# EAGLE library part IR2106 (library l63xx)
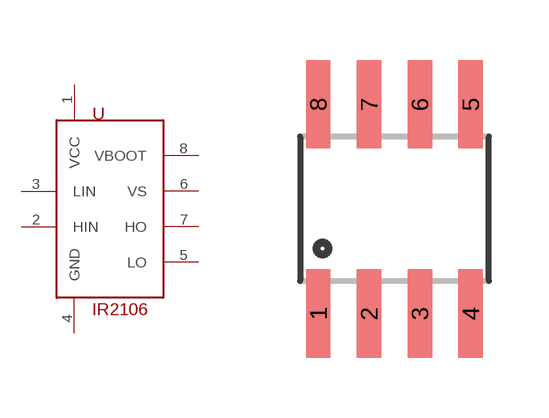
[diagram p1: symbol with the pads of SO8; footprint SO8]

Designator prefix -

## IR2106  [SO8]
1  VCC  pwr
2  HIN  in
3  LIN  in
4  GND  pwr
5  LO  out
6  VS  out
7  HO  out
8  VBOOT  pwr

## Footprint SO8 (pad centres in mm)
smd 0.61 x 2.21: 1 -1.905,-2.616; 2 -0.635,-2.616; 3 0.635,-2.616; 4 1.905,-2.616; 5 1.905,2.616; 6 0.635,2.616; 7 -0.635,2.616; 8 -1.905,2.616